# EAGLE library part PIC18(L)F15323 (library PIC18LF15323)
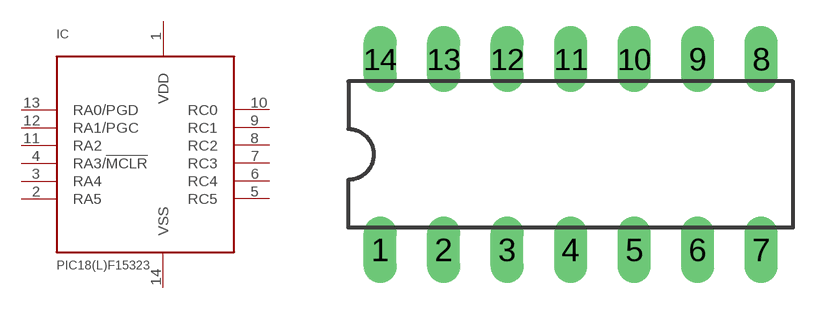
[diagram p0: symbol with the pads of DIL14; footprint DIL14]

Designator prefix IC

## PIC18(L)F15323-I/P  [DIL14]
1  VDD  pwr
2  RA5
3  RA4
4  RA3/!MCLR
5  RC5
6  RC4
7  RC3
8  RC2
9  RC1
10  RC0
11  RA2
12  RA1/PGC
13  RA0/PGD
14  VSS  pwr

## Footprint DIL14 (pad centres in mm)
Dual In Line Package
drill 0.813 long: 1 -7.62,-3.81; 2 -5.08,-3.81; 3 -2.54,-3.81; 4 0,-3.81; 5 2.54,-3.81; 6 5.08,-3.81; 7 7.62,-3.81; 8 7.62,3.81; 9 5.08,3.81; 10 2.54,3.81; 11 0,3.81; 12 -2.54,3.81; 13 -5.08,3.81; 14 -7.62,3.81